# Altium schematic symbol library DF13A-4P-1.25H(51).SchLib: 1 symbol
Pins are listed as number, name and electrical type; pins without a type are passive.

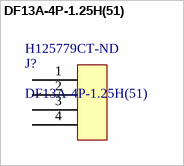
[diagram p0: symbol DF13A-4P-1.25H(51)]

## DF13A-4P-1.25H(51)
designator J?  Supplier Part Number 1: H125779CT-ND
4 pos DF13 right angle surface mount connector; Supplier 1: Digi-Key
footprint DF13A-4P-1.25H(51) (4 pos, 1.25mm pitch DF13 connector (H125779CT-ND))
pins: 1, 2, 3, 4